# Altium footprint library A4988.PcbLib: 1 footprints
Each footprint in its own frame and in the unit in brackets; x right, y up, seen from the top. Pads: shape width x height; smd on the part's side, far side on the other; paste and mask are expansions set on the pad; w line width, h text height; cw(c..) or ccw(c..) is an arc to the next point about the centre after c.
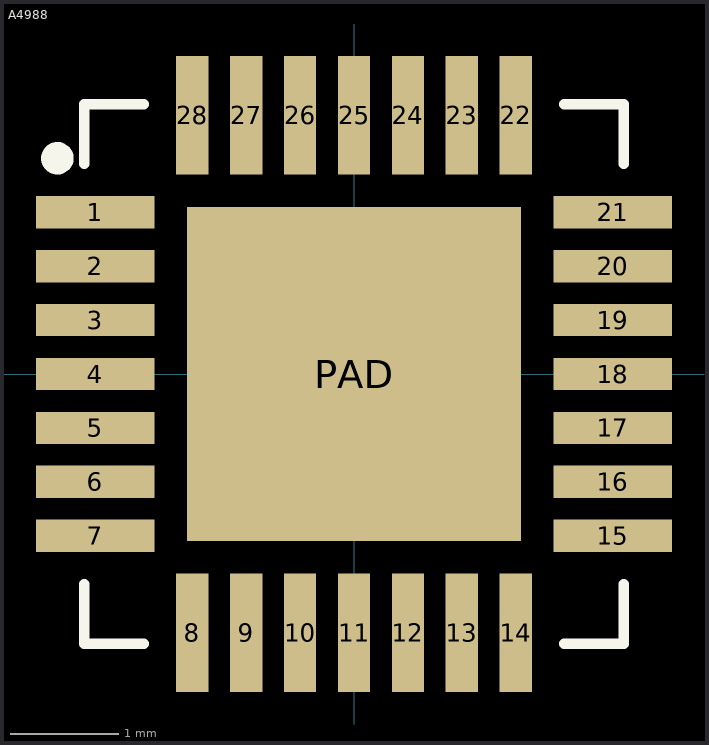
[diagram p0: the footprint, top view; thin cyan lines are the x and y axes]

## A4988 [mm] "Stepper Driver"
height 0.9
pads (29):
  rect 1.1x0.3 smd: 1(-2.4,1.5) 2(-2.4,1) 3(-2.4,0.5) 4(-2.4,0) 5(-2.4,-0.5) 6(-2.4,-1) 7(-2.4,-1.5) 15(2.4,-1.5) 16(2.4,-1) 17(2.4,-0.5) 18(2.4,0) 19(2.4,0.5) 20(2.4,1) 21(2.4,1.5)
  rect 0.3x1.1 smd: 8(-1.5,-2.4) 9(-1,-2.4) 10(-0.5,-2.4) 11(0,-2.4) 12(0.5,-2.4) 13(1,-2.4) 14(1.5,-2.4) 22(1.5,2.4) 23(1,2.4) 24(0.5,2.4) 25(0,2.4) 26(-0.5,2.4) 27(-1,2.4) 28(-1.5,2.4)
  rect 3.1x3.1 smd: PAD(0,0)
Top Overlay:
  circle w0.2: c-2.75,2 r0.05
  lines w0.1: -2.5,-1.95 -2.5,-2.5 -1.95,-2.5 ; -2.5,1.95 -2.5,2.5 -1.95,2.5 ; 1.95,-2.5 2.5,-2.5 2.5,-1.95 ; 1.95,2.5 2.5,2.5 2.5,1.95